# EAGLE library part TXS02612RTWR (library SamacSys_Parts)
SDIO Port Expander With Voltage-Level Translation Source: Datasheet <http://www.ti.com/lit/gpn/txs02612>
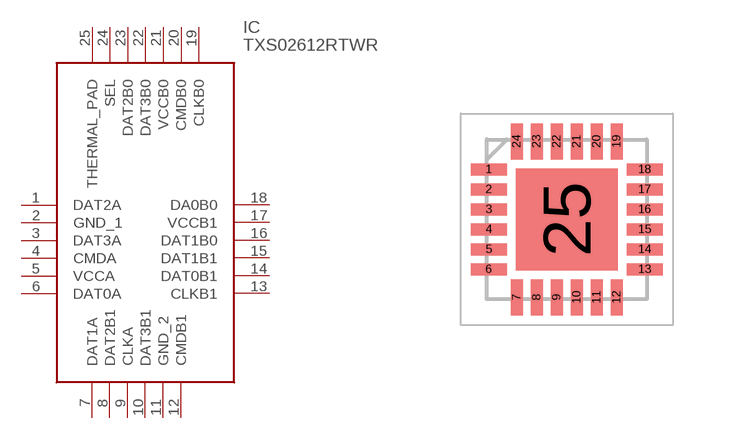
[diagram p9: symbol with the pads of QFN50P400X400X80-25N; footprint QFN50P400X400X80-25N]

Designator prefix IC

## TXS02612RTWR (DESCRIPTION: SDIO Port Expander With Voltage-Level Translation; HEIGHT: 0.8mm; MANUFACTURER_NAME: Texas Instruments; MANUFACTURER_PART_NUMBER: TXS02612RTWR; MOUSER_PART_NUMBER: 595-TXS02612RTWR; MOUSER_PRICE-STOCK: https://www.mouser.com/Search/Refine.aspx?Keyword=595-TXS02612RTWR)  [QFN50P400X400X80-25N]
1  DAT2A
2  GND_1
3  DAT3A
4  CMDA
5  VCCA
6  DAT0A
7  DAT1A
8  DAT2B1
9  CLKA
10  DAT3B1
11  GND_2
12  CMDB1
13  CLKB1
14  DAT0B1
15  DAT1B1
16  DAT1B0
17  VCCB1
18  DA0B0
19  CLKB0
20  CMDB0
21  VCCB0
22  DAT3B0
23  DAT2B0
24  SEL
25  THERMAL_PAD

## Footprint QFN50P400X400X80-25N (pad centres in mm)
RTW (S-PWQFN-N24)_1
smd 0.9 x 0.3: 1 -1.95,1.25; 2 -1.95,0.75; 3 -1.95,0.25; 4 -1.95,-0.25; 5 -1.95,-0.75; 6 -1.95,-1.25; 13 1.95,-1.25; 14 1.95,-0.75; 15 1.95,-0.25; 16 1.95,0.25; 17 1.95,0.75; 18 1.95,1.25
smd 0.3 x 0.9: 7 -1.25,-1.95; 8 -0.75,-1.95; 9 -0.25,-1.95; 10 0.25,-1.95; 11 0.75,-1.95; 12 1.25,-1.95; 19 1.25,1.95; 20 0.75,1.95; 21 0.25,1.95; 22 -0.25,1.95; 23 -0.75,1.95; 24 -1.25,1.95
smd 2.55 x 2.55: 25 0,0